# EAGLE library part AL5WNK (library pedals-relays)
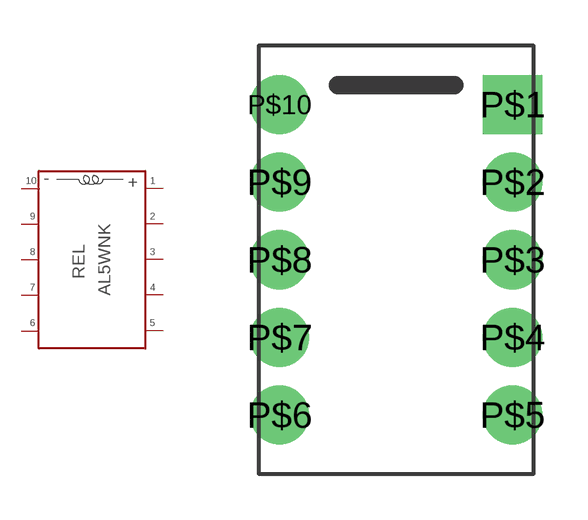
[diagram p0: symbol with the pads of 10PIN; footprint 10PIN]

Designator prefix REL

## AL5WNK  [10PIN]
P$1  P$1
P$2  P$2
P$3  P$3
P$4  P$4
P$5  P$5
P$6  P$6
P$7  P$7
P$8  P$8
P$9  P$9
P$10  P$10

## Footprint 10PIN (pad centres in mm)
drill 1 pad 1.93 square: P$1 3.81,5.08
drill 1 pad 1.93: P$2 3.81,2.54; P$3 3.81,0; P$4 3.81,-2.54; P$5 3.81,-5.08; P$6 -3.81,-5.08; P$7 -3.81,-2.54; P$8 -3.81,0; P$9 -3.81,2.54; P$10 -3.81,5.08